# EAGLE library part WE-RJ45_74990100040 (library 7499511611A_Eagle_WE-RJ45_rev20a)
WE-RJ45 LAN Transformer Characteristics RJ45 Connector with integrated transformer / common mode choke Power over Ethernet up to 50 Watt and speeds up to 10 Gbit/s Available in SMD, THT and THT with USB Compliant with standards: IEEE 802.3u, IEEE 802.3ab, IEEE 802.3af, IEEE 802.3at, IEEE 802.3an and upcoming IEE 802.3bt Applications Suitable for industrial temperatures from –40 °C up to +85 °C Compatible to Industrial Ethernet systems like EtherCAT or Profinet Compliant with most IC’s for Ethernet applications such as Microchip, Texas Instruments, Broadcom, Linear Technology Hubs, Routers, Switches, IP cameras, IoT applications <https://www.we-online.com/catalog/media/o35731v209%20Family_WE-RJ45-LAN.jpg> Details see: https://www.we-online.com/catalog/en/WE-LAN-RJ45/ Created by Ella Wu 2020-05-15 2020 (C) Wurth Elektronik
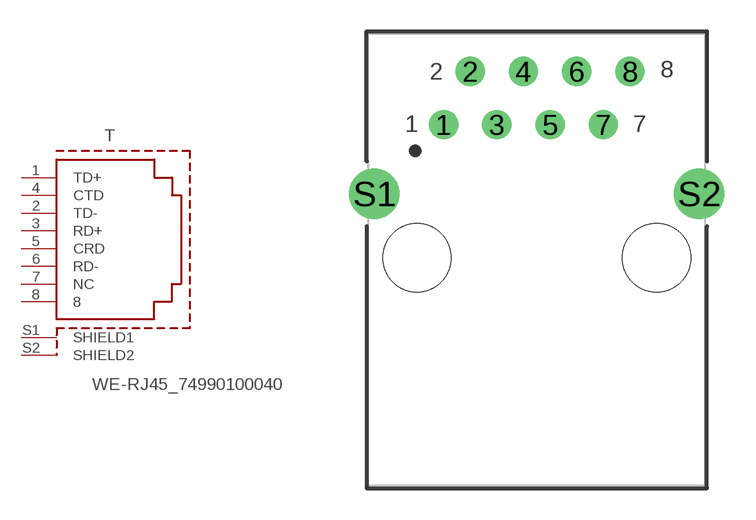
[diagram p32: symbol with the pads of 74990100040; footprint 74990100040]

Designator prefix T

## WE-RJ45_74990100040 (DATA-RATE: 10/100 Base-T; DATASHEET-URL: https://www.we-online.com/catalog/datasheet/74990100040.pdf; LED: -; MOUNT: THT; PART-NUMBER: 74990100040; POE: non-PoE; PORTS: 1; USB: No)  [74990100040]
1  TD+
2  TD-
3  RD+
4  CTD
5  CRD
6  RD-
7  NC
8  8
S1  SHIELD1  pwr
S2  SHIELD2  pwr

## Footprint 74990100040 (pad centres in mm)
WE-RJ45 LAN Transformer 10/100 Base-T
drill 0.89: 1 -4.445,6.35; 2 -3.175,8.89; 3 -1.905,6.35; 4 -0.635,8.89; 5 0.635,6.35; 6 1.905,8.89; 7 3.175,6.35; 8 4.445,8.89
drill 1.6: S1 -7.745,3.05; S2 7.745,3.05
hole 3.25 at -5.715,0
hole 3.25 at 5.715,0